# Altium footprint library Connector_Phoenix_MSTB.PcbLib: 180 footprints (part 1 of 12)
Each footprint in its own frame and in the unit in brackets; x right, y up, seen from the top. Pads: shape width x height; smd on the part's side, far side on the other; paste and mask are expansions set on the pad; w line width, h text height; cw(c..) or ccw(c..) is an arc to the next point about the centre after c.
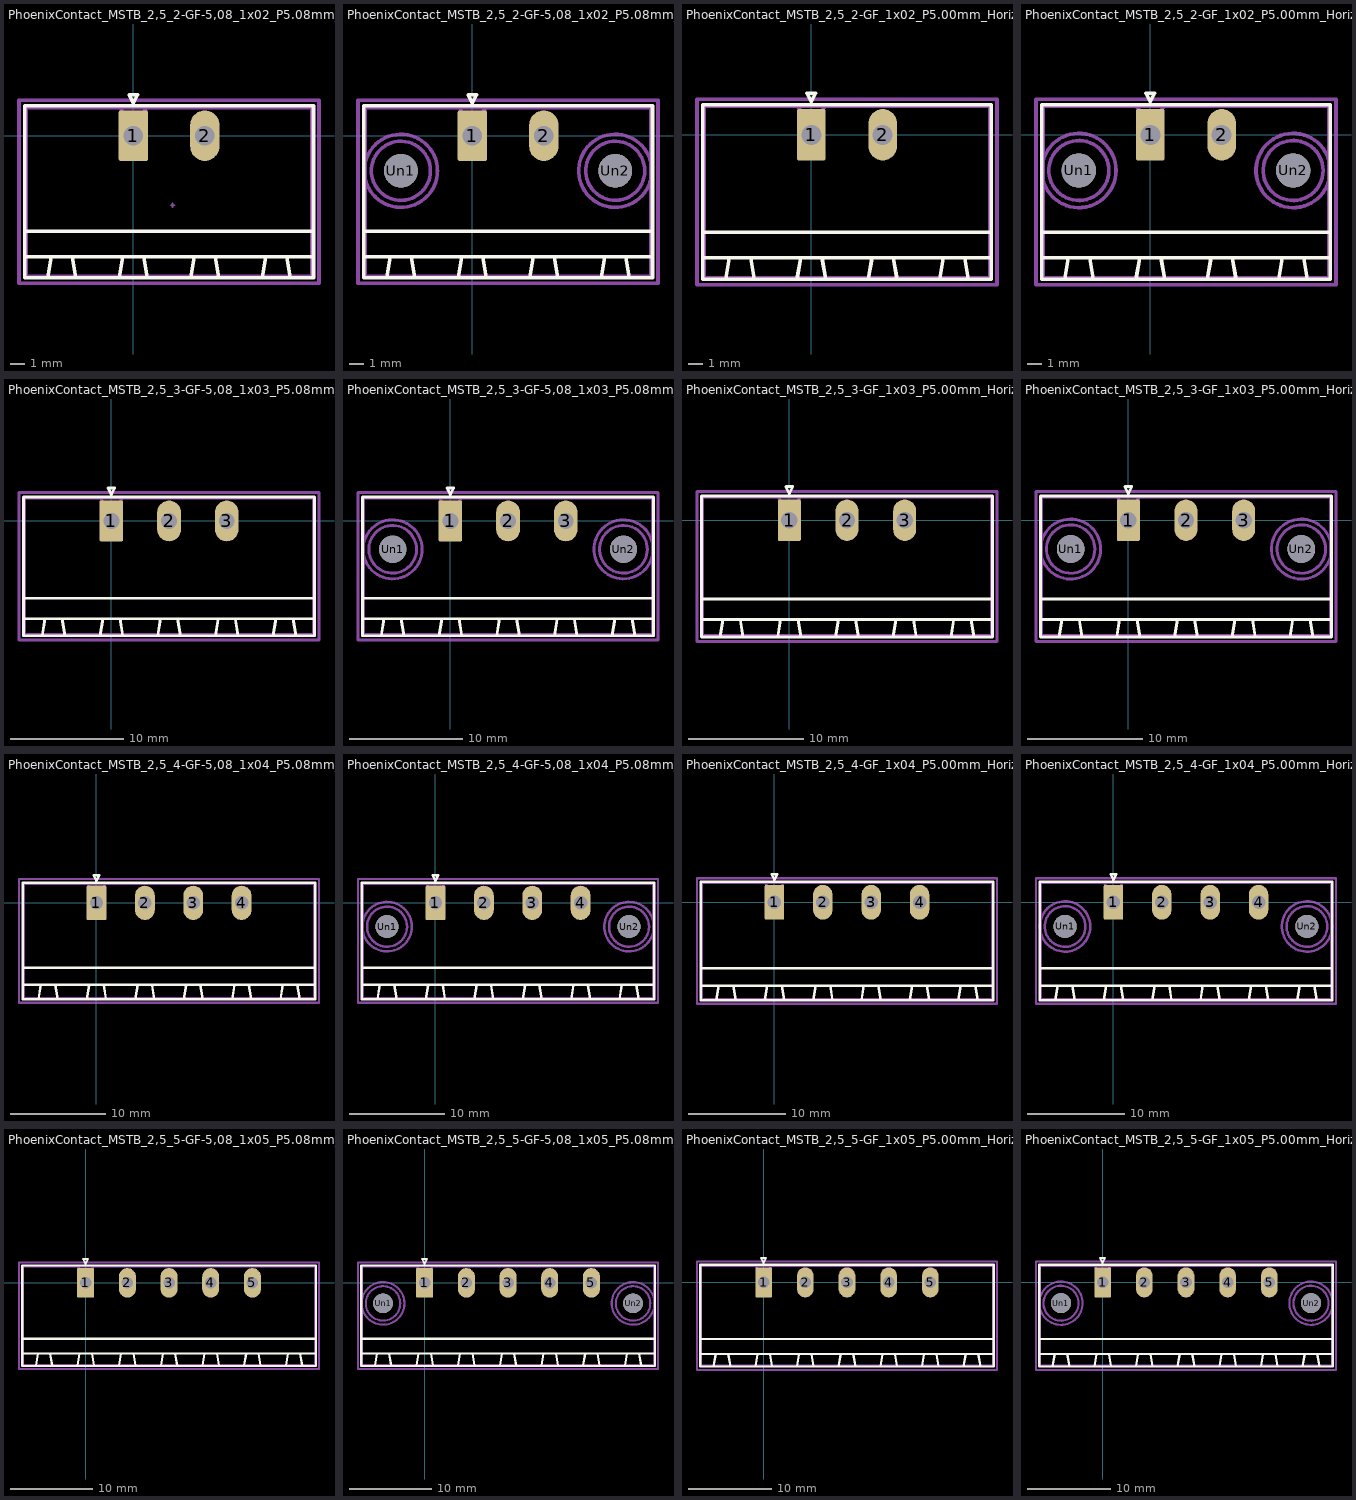
[diagram p0: the footprints below, top view; thin cyan lines are the x and y axes]

## PhoenixContact_MSTB_2,5_2-GF-5,08_1x02_P5.08mm_Horizontal_ThreadedFlange [mm]
pads (2):
  rrect12% 2.08x3.6 hole 1.4: 1(0,0)
  rrect100% 2.08x3.6 hole 1.4: 2(5.08,0)
F.SilkS:
  lines w0.254: -7.73,-10.11 12.81,-10.11 12.81,2.11 -7.73,2.11 -7.73,-10.11 ; -7.73,-8.61 12.81,-8.61 12.81,-6.81 -7.73,-6.81 -7.73,-8.61 ; -6.08,-10.11 -5.83,-8.61 -4.33,-8.61 -4.08,-10.11 -6.08,-10.11 ; -1,-10.11 -0.75,-8.61 0.75,-8.61 1,-10.11 -1,-10.11 ; -0.3,2.91 0,2.31 0.3,2.91 -0.3,2.91 ; 4.08,-10.11 4.33,-8.61 5.83,-8.61 6.08,-10.11 4.08,-10.11 ; 9.16,-10.11 9.41,-8.61 10.91,-8.61 11.16,-10.11 9.16,-10.11
Top Component Center:
  lines w0.127: 2.667,-4.953 2.921,-4.953 ; 2.794,-5.08 2.794,-4.826
Top Assembly:
  lines w0.254: -0.95,2 0,0.5 0.95,2 ; -7.62,-10 12.7,-10 12.7,2 -7.62,2 -7.62,-10
  text "'.Designator'" at -1.507,0.46 h1
Top Courtyard:
  lines w0.254: -8.13,-10.5 13.2,-10.5 13.2,2.5 -8.13,2.5 -8.13,-10.5
Top Designator:
  text ".Designator" at -5.078,-3.937 h1.52

## PhoenixContact_MSTB_2,5_2-GF-5,08_1x02_P5.08mm_Horizontal_ThreadedFlange_MountHole [mm]
pads (4):
  rrect12% 2.08x3.6 hole 1.4: 1(0,0)
  rrect100% 2.08x3.6 hole 1.4: 2(5.08,0)
  round 2.4 hole 2.4: Un1(-5.08,-2.5) Un2(10.16,-2.5)
F.SilkS:
  lines w0.254: -7.73,-10.11 12.81,-10.11 12.81,2.11 -7.73,2.11 -7.73,-10.11 ; -7.73,-8.61 12.81,-8.61 12.81,-6.81 -7.73,-6.81 -7.73,-8.61 ; -6.08,-10.11 -5.83,-8.61 -4.33,-8.61 -4.08,-10.11 -6.08,-10.11 ; -1,-10.11 -0.75,-8.61 0.75,-8.61 1,-10.11 -1,-10.11 ; -0.3,2.91 0,2.31 0.3,2.91 -0.3,2.91 ; 4.08,-10.11 4.33,-8.61 5.83,-8.61 6.08,-10.11 4.08,-10.11 ; 9.16,-10.11 9.41,-8.61 10.91,-8.61 11.16,-10.11 9.16,-10.11
B.SilkS:
  circle w0.254: c10.16,-2.5 r2.21
  circle w0.254: c-5.08,-2.5 r2.21
Top Assembly:
  lines w0.254: -0.95,2 0,0.5 0.95,2 ; -7.62,-10 12.7,-10 12.7,2 -7.62,2 -7.62,-10
  text "'.Designator'" at -1.507,0.46 h1
Bottom Assembly:
  circle w0.254: c10.16,-2.5 r2.1
  circle w0.254: c-5.08,-2.5 r2.1
Top Courtyard:
  lines w0.254: -8.13,-10.5 13.2,-10.5 13.2,2.5 -8.13,2.5 -8.13,-10.5
Bottom Courtyard:
  circle w0.254: c10.16,-2.5 r2.6
  circle w0.254: c-5.08,-2.5 r2.6
Top Designator:
  text ".Designator" at -5.083,-4.303 h1.52

## PhoenixContact_MSTB_2,5_2-GF_1x02_P5.00mm_Horizontal_ThreadedFlange [mm]
pads (2):
  rrect12% 2x3.6 hole 1.4: 1(0,0)
  rrect100% 2x3.6 hole 1.4: 2(5,0)
F.SilkS:
  lines w0.254: -7.61,-10.11 12.61,-10.11 12.61,2.11 -7.61,2.11 -7.61,-10.11 ; -7.61,-8.61 12.61,-8.61 12.61,-6.81 -7.61,-6.81 -7.61,-8.61 ; -6,-10.11 -5.75,-8.61 -4.25,-8.61 -4,-10.11 -6,-10.11 ; -1,-10.11 -0.75,-8.61 0.75,-8.61 1,-10.11 -1,-10.11 ; -0.3,2.91 0,2.31 0.3,2.91 -0.3,2.91 ; 4,-10.11 4.25,-8.61 5.75,-8.61 6,-10.11 4,-10.11 ; 9,-10.11 9.25,-8.61 10.75,-8.61 11,-10.11 9,-10.11
Top Assembly:
  lines w0.254: -0.95,2 0,0.5 0.95,2 ; -7.5,-10 12.5,-10 12.5,2 -7.5,2 -7.5,-10
  text "'.Designator'" at -1.547,0.46 h1
Top Courtyard:
  lines w0.254: -8,-10.5 13,-10.5 13,2.5 -8,2.5 -8,-10.5
Top Designator:
  text ".Designator" at -5.118,-4.303 h1.52

## PhoenixContact_MSTB_2,5_2-GF_1x02_P5.00mm_Horizontal_ThreadedFlange_MountHole [mm]
pads (4):
  rrect12% 2x3.6 hole 1.4: 1(0,0)
  rrect100% 2x3.6 hole 1.4: 2(5,0)
  round 2.4 hole 2.4: Un1(-5,-2.5) Un2(10,-2.5)
F.SilkS:
  lines w0.254: -7.61,-10.11 12.61,-10.11 12.61,2.11 -7.61,2.11 -7.61,-10.11 ; -7.61,-8.61 12.61,-8.61 12.61,-6.81 -7.61,-6.81 -7.61,-8.61 ; -6,-10.11 -5.75,-8.61 -4.25,-8.61 -4,-10.11 -6,-10.11 ; -1,-10.11 -0.75,-8.61 0.75,-8.61 1,-10.11 -1,-10.11 ; -0.3,2.91 0,2.31 0.3,2.91 -0.3,2.91 ; 4,-10.11 4.25,-8.61 5.75,-8.61 6,-10.11 4,-10.11 ; 9,-10.11 9.25,-8.61 10.75,-8.61 11,-10.11 9,-10.11
B.SilkS:
  circle w0.254: c10,-2.5 r2.21
  circle w0.254: c-5,-2.5 r2.21
Top Assembly:
  lines w0.254: -0.95,2 0,0.5 0.95,2 ; -7.5,-10 12.5,-10 12.5,2 -7.5,2 -7.5,-10
  text "'.Designator'" at -1.547,0.46 h1
Bottom Assembly:
  circle w0.254: c10,-2.5 r2.1
  circle w0.254: c-5,-2.5 r2.1
Top Courtyard:
  lines w0.254: -8,-10.5 13,-10.5 13,2.5 -8,2.5 -8,-10.5
Bottom Courtyard:
  circle w0.254: c10,-2.5 r2.6
  circle w0.254: c-5,-2.5 r2.6
Top Designator:
  text ".Designator" at -5.118,-4.303 h1.52

## PhoenixContact_MSTB_2,5_3-GF-5,08_1x03_P5.08mm_Horizontal_ThreadedFlange [mm]
pads (3):
  rrect12% 2.08x3.6 hole 1.4: 1(0,0)
  rrect100% 2.08x3.6 hole 1.4: 2(5.08,0) 3(10.16,0)
F.SilkS:
  lines w0.254: -7.73,-10.11 17.89,-10.11 17.89,2.11 -7.73,2.11 -7.73,-10.11 ; -7.73,-8.61 17.89,-8.61 17.89,-6.81 -7.73,-6.81 -7.73,-8.61 ; -6.08,-10.11 -5.83,-8.61 -4.33,-8.61 -4.08,-10.11 -6.08,-10.11 ; -1,-10.11 -0.75,-8.61 0.75,-8.61 1,-10.11 -1,-10.11 ; -0.3,2.91 0,2.31 0.3,2.91 -0.3,2.91 ; 4.08,-10.11 4.33,-8.61 5.83,-8.61 6.08,-10.11 4.08,-10.11 ; 9.16,-10.11 9.41,-8.61 10.91,-8.61 11.16,-10.11 9.16,-10.11 ; 14.24,-10.11 14.49,-8.61 15.99,-8.61 16.24,-10.11 14.24,-10.11
Top Assembly:
  lines w0.254: -0.95,2 0,0.5 0.95,2 ; -7.62,-10 17.78,-10 17.78,2 -7.62,2 -7.62,-10
  text "'.Designator'" at 1.033,0.46 h1
Top Courtyard:
  lines w0.254: -8.13,-10.5 18.28,-10.5 18.28,2.5 -8.13,2.5 -8.13,-10.5
Top Designator:
  text ".Designator" at -2.543,-4.303 h1.52

## PhoenixContact_MSTB_2,5_3-GF-5,08_1x03_P5.08mm_Horizontal_ThreadedFlange_MountHole [mm]
pads (5):
  rrect12% 2.08x3.6 hole 1.4: 1(0,0)
  rrect100% 2.08x3.6 hole 1.4: 2(5.08,0) 3(10.16,0)
  round 2.4 hole 2.4: Un1(-5.08,-2.5) Un2(15.24,-2.5)
F.SilkS:
  lines w0.254: -7.73,-10.11 17.89,-10.11 17.89,2.11 -7.73,2.11 -7.73,-10.11 ; -7.73,-8.61 17.89,-8.61 17.89,-6.81 -7.73,-6.81 -7.73,-8.61 ; -6.08,-10.11 -5.83,-8.61 -4.33,-8.61 -4.08,-10.11 -6.08,-10.11 ; -1,-10.11 -0.75,-8.61 0.75,-8.61 1,-10.11 -1,-10.11 ; -0.3,2.91 0,2.31 0.3,2.91 -0.3,2.91 ; 4.08,-10.11 4.33,-8.61 5.83,-8.61 6.08,-10.11 4.08,-10.11 ; 9.16,-10.11 9.41,-8.61 10.91,-8.61 11.16,-10.11 9.16,-10.11 ; 14.24,-10.11 14.49,-8.61 15.99,-8.61 16.24,-10.11 14.24,-10.11
B.SilkS:
  circle w0.254: c15.24,-2.5 r2.21
  circle w0.254: c-5.08,-2.5 r2.21
Top Assembly:
  lines w0.254: -0.95,2 0,0.5 0.95,2 ; -7.62,-10 17.78,-10 17.78,2 -7.62,2 -7.62,-10
  text "'.Designator'" at 1.033,0.46 h1
Bottom Assembly:
  circle w0.254: c15.24,-2.5 r2.1
  circle w0.254: c-5.08,-2.5 r2.1
Top Courtyard:
  lines w0.254: -8.13,-10.5 18.28,-10.5 18.28,2.5 -8.13,2.5 -8.13,-10.5
Bottom Courtyard:
  circle w0.254: c15.24,-2.5 r2.6
  circle w0.254: c-5.08,-2.5 r2.6
Top Designator:
  text ".Designator" at -2.543,-4.303 h1.52

## PhoenixContact_MSTB_2,5_3-GF_1x03_P5.00mm_Horizontal_ThreadedFlange [mm]
pads (3):
  rrect12% 2x3.6 hole 1.4: 1(0,0)
  rrect100% 2x3.6 hole 1.4: 2(5,0) 3(10,0)
F.SilkS:
  lines w0.254: -7.61,-10.11 17.61,-10.11 17.61,2.11 -7.61,2.11 -7.61,-10.11 ; -7.61,-8.61 17.61,-8.61 17.61,-6.81 -7.61,-6.81 -7.61,-8.61 ; -6,-10.11 -5.75,-8.61 -4.25,-8.61 -4,-10.11 -6,-10.11 ; -1,-10.11 -0.75,-8.61 0.75,-8.61 1,-10.11 -1,-10.11 ; -0.3,2.91 0,2.31 0.3,2.91 -0.3,2.91 ; 4,-10.11 4.25,-8.61 5.75,-8.61 6,-10.11 4,-10.11 ; 9,-10.11 9.25,-8.61 10.75,-8.61 11,-10.11 9,-10.11 ; 14,-10.11 14.25,-8.61 15.75,-8.61 16,-10.11 14,-10.11
Top Assembly:
  lines w0.254: -0.95,2 0,0.5 0.95,2 ; -7.5,-10 17.5,-10 17.5,2 -7.5,2 -7.5,-10
  text "'.Designator'" at 0.953,0.46 h1
Top Courtyard:
  lines w0.254: -8,-10.5 18,-10.5 18,2.5 -8,2.5 -8,-10.5
Top Designator:
  text ".Designator" at -2.618,-4.303 h1.52

## PhoenixContact_MSTB_2,5_3-GF_1x03_P5.00mm_Horizontal_ThreadedFlange_MountHole [mm]
pads (5):
  rrect12% 2x3.6 hole 1.4: 1(0,0)
  rrect100% 2x3.6 hole 1.4: 2(5,0) 3(10,0)
  round 2.4 hole 2.4: Un1(-5,-2.5) Un2(15,-2.5)
F.SilkS:
  lines w0.254: -7.61,-10.11 17.61,-10.11 17.61,2.11 -7.61,2.11 -7.61,-10.11 ; -7.61,-8.61 17.61,-8.61 17.61,-6.81 -7.61,-6.81 -7.61,-8.61 ; -6,-10.11 -5.75,-8.61 -4.25,-8.61 -4,-10.11 -6,-10.11 ; -1,-10.11 -0.75,-8.61 0.75,-8.61 1,-10.11 -1,-10.11 ; -0.3,2.91 0,2.31 0.3,2.91 -0.3,2.91 ; 4,-10.11 4.25,-8.61 5.75,-8.61 6,-10.11 4,-10.11 ; 9,-10.11 9.25,-8.61 10.75,-8.61 11,-10.11 9,-10.11 ; 14,-10.11 14.25,-8.61 15.75,-8.61 16,-10.11 14,-10.11
B.SilkS:
  circle w0.254: c15,-2.5 r2.21
  circle w0.254: c-5,-2.5 r2.21
Top Assembly:
  lines w0.254: -0.95,2 0,0.5 0.95,2 ; -7.5,-10 17.5,-10 17.5,2 -7.5,2 -7.5,-10
  text "'.Designator'" at 0.953,0.46 h1
Bottom Assembly:
  circle w0.254: c15,-2.5 r2.1
  circle w0.254: c-5,-2.5 r2.1
Top Courtyard:
  lines w0.254: -8,-10.5 18,-10.5 18,2.5 -8,2.5 -8,-10.5
Bottom Courtyard:
  circle w0.254: c15,-2.5 r2.6
  circle w0.254: c-5,-2.5 r2.6
Top Designator:
  text ".Designator" at -2.618,-4.303 h1.52

## PhoenixContact_MSTB_2,5_4-GF-5,08_1x04_P5.08mm_Horizontal_ThreadedFlange [mm]
pads (4):
  rrect12% 2.08x3.6 hole 1.4: 1(0,0)
  rrect100% 2.08x3.6 hole 1.4: 2(5.08,0) 3(10.16,0) 4(15.24,0)
F.SilkS:
  lines w0.254: -7.73,-10.11 22.97,-10.11 22.97,2.11 -7.73,2.11 -7.73,-10.11 ; -7.73,-8.61 22.97,-8.61 22.97,-6.81 -7.73,-6.81 -7.73,-8.61 ; -6.08,-10.11 -5.83,-8.61 -4.33,-8.61 -4.08,-10.11 -6.08,-10.11 ; -1,-10.11 -0.75,-8.61 0.75,-8.61 1,-10.11 -1,-10.11 ; -0.3,2.91 0,2.31 0.3,2.91 -0.3,2.91 ; 4.08,-10.11 4.33,-8.61 5.83,-8.61 6.08,-10.11 4.08,-10.11 ; 9.16,-10.11 9.41,-8.61 10.91,-8.61 11.16,-10.11 9.16,-10.11 ; 14.24,-10.11 14.49,-8.61 15.99,-8.61 16.24,-10.11 14.24,-10.11 ; 19.32,-10.11 19.57,-8.61 21.07,-8.61 21.32,-10.11 19.32,-10.11
Top Assembly:
  lines w0.254: -0.95,2 0,0.5 0.95,2 ; -7.62,-10 22.86,-10 22.86,2 -7.62,2 -7.62,-10
  text "'.Designator'" at 3.573,0.46 h1
Top Courtyard:
  lines w0.254: -8.13,-10.5 23.36,-10.5 23.36,2.5 -8.13,2.5 -8.13,-10.5
Top Designator:
  text ".Designator" at -0.003,-4.303 h1.52

## PhoenixContact_MSTB_2,5_4-GF-5,08_1x04_P5.08mm_Horizontal_ThreadedFlange_MountHole [mm]
pads (6):
  rrect12% 2.08x3.6 hole 1.4: 1(0,0)
  rrect100% 2.08x3.6 hole 1.4: 2(5.08,0) 3(10.16,0) 4(15.24,0)
  round 2.4 hole 2.4: Un1(-5.08,-2.5) Un2(20.32,-2.5)
F.SilkS:
  lines w0.254: -7.73,-10.11 22.97,-10.11 22.97,2.11 -7.73,2.11 -7.73,-10.11 ; -7.73,-8.61 22.97,-8.61 22.97,-6.81 -7.73,-6.81 -7.73,-8.61 ; -6.08,-10.11 -5.83,-8.61 -4.33,-8.61 -4.08,-10.11 -6.08,-10.11 ; -1,-10.11 -0.75,-8.61 0.75,-8.61 1,-10.11 -1,-10.11 ; -0.3,2.91 0,2.31 0.3,2.91 -0.3,2.91 ; 4.08,-10.11 4.33,-8.61 5.83,-8.61 6.08,-10.11 4.08,-10.11 ; 9.16,-10.11 9.41,-8.61 10.91,-8.61 11.16,-10.11 9.16,-10.11 ; 14.24,-10.11 14.49,-8.61 15.99,-8.61 16.24,-10.11 14.24,-10.11 ; 19.32,-10.11 19.57,-8.61 21.07,-8.61 21.32,-10.11 19.32,-10.11
B.SilkS:
  circle w0.254: c20.32,-2.5 r2.21
  circle w0.254: c-5.08,-2.5 r2.21
Top Assembly:
  lines w0.254: -0.95,2 0,0.5 0.95,2 ; -7.62,-10 22.86,-10 22.86,2 -7.62,2 -7.62,-10
  text "'.Designator'" at 3.573,0.46 h1
Bottom Assembly:
  circle w0.254: c20.32,-2.5 r2.1
  circle w0.254: c-5.08,-2.5 r2.1
Top Courtyard:
  lines w0.254: -8.13,-10.5 23.36,-10.5 23.36,2.5 -8.13,2.5 -8.13,-10.5
Bottom Courtyard:
  circle w0.254: c20.32,-2.5 r2.6
  circle w0.254: c-5.08,-2.5 r2.6
Top Designator:
  text ".Designator" at -0.003,-4.303 h1.52

## PhoenixContact_MSTB_2,5_4-GF_1x04_P5.00mm_Horizontal_ThreadedFlange [mm]
pads (4):
  rrect12% 2x3.6 hole 1.4: 1(0,0)
  rrect100% 2x3.6 hole 1.4: 2(5,0) 3(10,0) 4(15,0)
F.SilkS:
  lines w0.254: -7.61,-10.11 22.61,-10.11 22.61,2.11 -7.61,2.11 -7.61,-10.11 ; -7.61,-8.61 22.61,-8.61 22.61,-6.81 -7.61,-6.81 -7.61,-8.61 ; -6,-10.11 -5.75,-8.61 -4.25,-8.61 -4,-10.11 -6,-10.11 ; -1,-10.11 -0.75,-8.61 0.75,-8.61 1,-10.11 -1,-10.11 ; -0.3,2.91 0,2.31 0.3,2.91 -0.3,2.91 ; 4,-10.11 4.25,-8.61 5.75,-8.61 6,-10.11 4,-10.11 ; 9,-10.11 9.25,-8.61 10.75,-8.61 11,-10.11 9,-10.11 ; 14,-10.11 14.25,-8.61 15.75,-8.61 16,-10.11 14,-10.11 ; 19,-10.11 19.25,-8.61 20.75,-8.61 21,-10.11 19,-10.11
Top Assembly:
  lines w0.254: -0.95,2 0,0.5 0.95,2 ; -7.5,-10 22.5,-10 22.5,2 -7.5,2 -7.5,-10
  text "'.Designator'" at 3.453,0.46 h1
Top Courtyard:
  lines w0.254: -8,-10.5 23,-10.5 23,2.5 -8,2.5 -8,-10.5
Top Designator:
  text ".Designator" at -0.118,-4.303 h1.52

## PhoenixContact_MSTB_2,5_4-GF_1x04_P5.00mm_Horizontal_ThreadedFlange_MountHole [mm]
pads (6):
  rrect12% 2x3.6 hole 1.4: 1(0,0)
  rrect100% 2x3.6 hole 1.4: 2(5,0) 3(10,0) 4(15,0)
  round 2.4 hole 2.4: Un1(-5,-2.5) Un2(20,-2.5)
F.SilkS:
  lines w0.254: -7.61,-10.11 22.61,-10.11 22.61,2.11 -7.61,2.11 -7.61,-10.11 ; -7.61,-8.61 22.61,-8.61 22.61,-6.81 -7.61,-6.81 -7.61,-8.61 ; -6,-10.11 -5.75,-8.61 -4.25,-8.61 -4,-10.11 -6,-10.11 ; -1,-10.11 -0.75,-8.61 0.75,-8.61 1,-10.11 -1,-10.11 ; -0.3,2.91 0,2.31 0.3,2.91 -0.3,2.91 ; 4,-10.11 4.25,-8.61 5.75,-8.61 6,-10.11 4,-10.11 ; 9,-10.11 9.25,-8.61 10.75,-8.61 11,-10.11 9,-10.11 ; 14,-10.11 14.25,-8.61 15.75,-8.61 16,-10.11 14,-10.11 ; 19,-10.11 19.25,-8.61 20.75,-8.61 21,-10.11 19,-10.11
B.SilkS:
  circle w0.254: c20,-2.5 r2.21
  circle w0.254: c-5,-2.5 r2.21
Top Assembly:
  lines w0.254: -0.95,2 0,0.5 0.95,2 ; -7.5,-10 22.5,-10 22.5,2 -7.5,2 -7.5,-10
  text "'.Designator'" at 3.453,0.46 h1
Bottom Assembly:
  circle w0.254: c20,-2.5 r2.1
  circle w0.254: c-5,-2.5 r2.1
Top Courtyard:
  lines w0.254: -8,-10.5 23,-10.5 23,2.5 -8,2.5 -8,-10.5
Bottom Courtyard:
  circle w0.254: c20,-2.5 r2.6
  circle w0.254: c-5,-2.5 r2.6
Top Designator:
  text ".Designator" at -0.118,-4.303 h1.52

## PhoenixContact_MSTB_2,5_5-GF-5,08_1x05_P5.08mm_Horizontal_ThreadedFlange [mm]
pads (5):
  rrect12% 2.08x3.6 hole 1.4: 1(0,0)
  rrect100% 2.08x3.6 hole 1.4: 2(5.08,0) 3(10.16,0) 4(15.24,0) 5(20.32,0)
F.SilkS:
  lines w0.254: -7.73,-10.11 28.05,-10.11 28.05,2.11 -7.73,2.11 -7.73,-10.11 ; -7.73,-8.61 28.05,-8.61 28.05,-6.81 -7.73,-6.81 -7.73,-8.61 ; -6.08,-10.11 -5.83,-8.61 -4.33,-8.61 -4.08,-10.11 -6.08,-10.11 ; -1,-10.11 -0.75,-8.61 0.75,-8.61 1,-10.11 -1,-10.11 ; -0.3,2.91 0,2.31 0.3,2.91 -0.3,2.91 ; 4.08,-10.11 4.33,-8.61 5.83,-8.61 6.08,-10.11 4.08,-10.11 ; 9.16,-10.11 9.41,-8.61 10.91,-8.61 11.16,-10.11 9.16,-10.11 ; 14.24,-10.11 14.49,-8.61 15.99,-8.61 16.24,-10.11 14.24,-10.11 ; 19.32,-10.11 19.57,-8.61 21.07,-8.61 21.32,-10.11 19.32,-10.11 ; 24.4,-10.11 24.65,-8.61 26.15,-8.61 26.4,-10.11 24.4,-10.11
Top Assembly:
  lines w0.254: -0.95,2 0,0.5 0.95,2 ; -7.62,-10 27.94,-10 27.94,2 -7.62,2 -7.62,-10
  text "'.Designator'" at 6.113,0.46 h1
Top Courtyard:
  lines w0.254: -8.13,-10.5 28.44,-10.5 28.44,2.5 -8.13,2.5 -8.13,-10.5
Top Designator:
  text ".Designator" at 2.537,-4.303 h1.52

## PhoenixContact_MSTB_2,5_5-GF-5,08_1x05_P5.08mm_Horizontal_ThreadedFlange_MountHole [mm]
pads (7):
  rrect12% 2.08x3.6 hole 1.4: 1(0,0)
  rrect100% 2.08x3.6 hole 1.4: 2(5.08,0) 3(10.16,0) 4(15.24,0) 5(20.32,0)
  round 2.4 hole 2.4: Un1(-5.08,-2.5) Un2(25.4,-2.5)
F.SilkS:
  lines w0.254: -7.73,-10.11 28.05,-10.11 28.05,2.11 -7.73,2.11 -7.73,-10.11 ; -7.73,-8.61 28.05,-8.61 28.05,-6.81 -7.73,-6.81 -7.73,-8.61 ; -6.08,-10.11 -5.83,-8.61 -4.33,-8.61 -4.08,-10.11 -6.08,-10.11 ; -1,-10.11 -0.75,-8.61 0.75,-8.61 1,-10.11 -1,-10.11 ; -0.3,2.91 0,2.31 0.3,2.91 -0.3,2.91 ; 4.08,-10.11 4.33,-8.61 5.83,-8.61 6.08,-10.11 4.08,-10.11 ; 9.16,-10.11 9.41,-8.61 10.91,-8.61 11.16,-10.11 9.16,-10.11 ; 14.24,-10.11 14.49,-8.61 15.99,-8.61 16.24,-10.11 14.24,-10.11 ; 19.32,-10.11 19.57,-8.61 21.07,-8.61 21.32,-10.11 19.32,-10.11 ; 24.4,-10.11 24.65,-8.61 26.15,-8.61 26.4,-10.11 24.4,-10.11
B.SilkS:
  circle w0.254: c25.4,-2.5 r2.21
  circle w0.254: c-5.08,-2.5 r2.21
Top Assembly:
  lines w0.254: -0.95,2 0,0.5 0.95,2 ; -7.62,-10 27.94,-10 27.94,2 -7.62,2 -7.62,-10
  text "'.Designator'" at 6.113,0.46 h1
Bottom Assembly:
  circle w0.254: c25.4,-2.5 r2.1
  circle w0.254: c-5.08,-2.5 r2.1
Top Courtyard:
  lines w0.254: -8.13,-10.5 28.44,-10.5 28.44,2.5 -8.13,2.5 -8.13,-10.5
Bottom Courtyard:
  circle w0.254: c25.4,-2.5 r2.6
  circle w0.254: c-5.08,-2.5 r2.6
Top Designator:
  text ".Designator" at 2.537,-4.303 h1.52

## PhoenixContact_MSTB_2,5_5-GF_1x05_P5.00mm_Horizontal_ThreadedFlange [mm]
pads (5):
  rrect12% 2x3.6 hole 1.4: 1(0,0)
  rrect100% 2x3.6 hole 1.4: 2(5,0) 3(10,0) 4(15,0) 5(20,0)
F.SilkS:
  lines w0.254: -7.61,-10.11 27.61,-10.11 27.61,2.11 -7.61,2.11 -7.61,-10.11 ; -7.61,-8.61 27.61,-8.61 27.61,-6.81 -7.61,-6.81 -7.61,-8.61 ; -6,-10.11 -5.75,-8.61 -4.25,-8.61 -4,-10.11 -6,-10.11 ; -1,-10.11 -0.75,-8.61 0.75,-8.61 1,-10.11 -1,-10.11 ; -0.3,2.91 0,2.31 0.3,2.91 -0.3,2.91 ; 4,-10.11 4.25,-8.61 5.75,-8.61 6,-10.11 4,-10.11 ; 9,-10.11 9.25,-8.61 10.75,-8.61 11,-10.11 9,-10.11 ; 14,-10.11 14.25,-8.61 15.75,-8.61 16,-10.11 14,-10.11 ; 19,-10.11 19.25,-8.61 20.75,-8.61 21,-10.11 19,-10.11 ; 24,-10.11 24.25,-8.61 25.75,-8.61 26,-10.11 24,-10.11
Top Assembly:
  lines w0.254: -0.95,2 0,0.5 0.95,2 ; -7.5,-10 27.5,-10 27.5,2 -7.5,2 -7.5,-10
  text "'.Designator'" at 5.953,0.46 h1
Top Courtyard:
  lines w0.254: -8,-10.5 28,-10.5 28,2.5 -8,2.5 -8,-10.5
Top Designator:
  text ".Designator" at 2.382,-4.303 h1.52

## PhoenixContact_MSTB_2,5_5-GF_1x05_P5.00mm_Horizontal_ThreadedFlange_MountHole [mm]
pads (7):
  rrect12% 2x3.6 hole 1.4: 1(0,0)
  rrect100% 2x3.6 hole 1.4: 2(5,0) 3(10,0) 4(15,0) 5(20,0)
  round 2.4 hole 2.4: Un1(-5,-2.5) Un2(25,-2.5)
F.SilkS:
  lines w0.254: -7.61,-10.11 27.61,-10.11 27.61,2.11 -7.61,2.11 -7.61,-10.11 ; -7.61,-8.61 27.61,-8.61 27.61,-6.81 -7.61,-6.81 -7.61,-8.61 ; -6,-10.11 -5.75,-8.61 -4.25,-8.61 -4,-10.11 -6,-10.11 ; -1,-10.11 -0.75,-8.61 0.75,-8.61 1,-10.11 -1,-10.11 ; -0.3,2.91 0,2.31 0.3,2.91 -0.3,2.91 ; 4,-10.11 4.25,-8.61 5.75,-8.61 6,-10.11 4,-10.11 ; 9,-10.11 9.25,-8.61 10.75,-8.61 11,-10.11 9,-10.11 ; 14,-10.11 14.25,-8.61 15.75,-8.61 16,-10.11 14,-10.11 ; 19,-10.11 19.25,-8.61 20.75,-8.61 21,-10.11 19,-10.11 ; 24,-10.11 24.25,-8.61 25.75,-8.61 26,-10.11 24,-10.11
B.SilkS:
  circle w0.254: c25,-2.5 r2.21
  circle w0.254: c-5,-2.5 r2.21
Top Assembly:
  lines w0.254: -0.95,2 0,0.5 0.95,2 ; -7.5,-10 27.5,-10 27.5,2 -7.5,2 -7.5,-10
  text "'.Designator'" at 5.953,0.46 h1
Bottom Assembly:
  circle w0.254: c25,-2.5 r2.1
  circle w0.254: c-5,-2.5 r2.1
Top Courtyard:
  lines w0.254: -8,-10.5 28,-10.5 28,2.5 -8,2.5 -8,-10.5
Bottom Courtyard:
  circle w0.254: c25,-2.5 r2.6
  circle w0.254: c-5,-2.5 r2.6
Top Designator:
  text ".Designator" at 2.382,-4.303 h1.52